# EAGLE library part PIC18F06Q40 (library MCE_Microcontroladores)
PIC18F06Q40
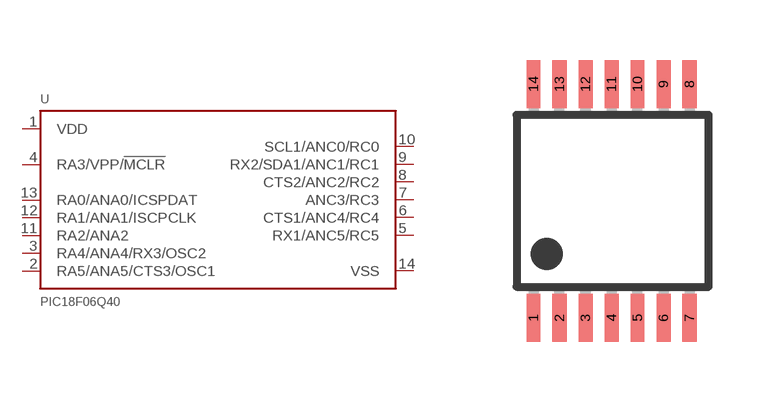
[diagram p12: symbol with the pads of TSSOP14; footprint TSSOP14]

Designator prefix U

## PIC18F06Q40TSSOP14  [TSSOP14]
1  VDD  pwr
2  RA5/ANA5/CTS3/OSC1
3  RA4/ANA4/RX3/OSC2
4  RA3/VPP/!MCLR  in
5  RX1/ANC5/RC5
6  CTS1/ANC4/RC4
7  ANC3/RC3
8  CTS2/ANC2/RC2
9  RX2/SDA1/ANC1/RC1
10  SCL1/ANC0/RC0
11  RA2/ANA2
12  RA1/ANA1/ISCPCLK
13  RA0/ANA0/ICSPDAT
14  VSS  pwr

## Footprint TSSOP14 (pad centres in mm)
PW (R-PDSO-G8) Source: http://focus.ti.com/lit/ds/symlink/ads1271.pdf
smd 0.35 x 1.2: 1 -1.875,-3.125; 2 -1.225,-3.125; 3 -0.575,-3.125; 4 0.075,-3.125; 5 0.725,-3.125; 6 1.375,-3.125; 7 2.025,-3.125; 8 2.025,2.725; 9 1.375,2.725; 10 0.725,2.725; 11 0.075,2.725; 12 -0.575,2.725; 13 -1.225,2.725; 14 -1.875,2.725